# EAGLE library part --MERGED_LP2989-LDO (library proxmark3_exported_and_modified_components)
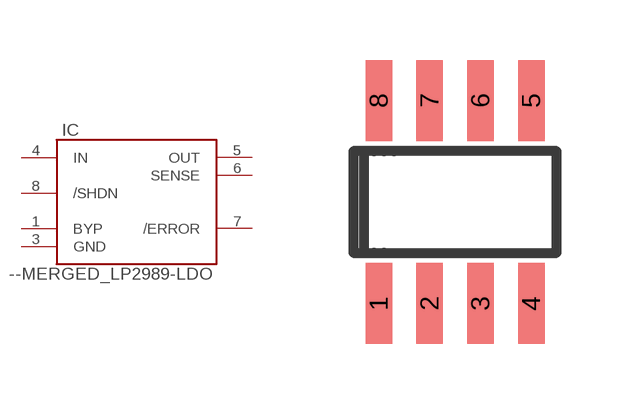
[diagram p7: symbol with the pads of --MERGED_SOIC-8; footprint --MERGED_SOIC-8]

Designator prefix IC

## --MERGED_LP2989-LDOSOIC  [--MERGED_SOIC-8]
1  BYP  pas
3  GND  pas
4  IN  pas
5  OUT  pas
6  SENSE  pas
7  /ERROR  pas
8  /SHDN  pas

## Footprint --MERGED_SOIC-8 (pad centres in mm)
smd 0.66 x 2.032: 1 0,0; 2 1.27,0; 3 2.54,0; 4 3.81,0; 5 3.81,5.08; 6 2.54,5.08; 7 1.27,5.08; 8 0,5.08